# EAGLE library part ZXGD3002E6TA (library ICs)
DIODES INC. ZXGD3002E6TA DRIVER, GATE, BIPOLAR, 9A (PEAK)
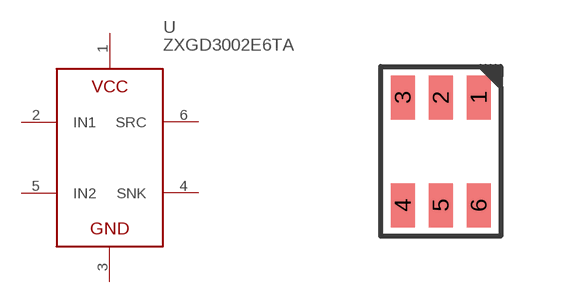
[diagram p68: symbol with the pads of SOT23-6; footprint SOT23-6]

Designator prefix U

## ZXGD3002E6TA (FARNELL: 1549139; PRICE_PER: 0.919; VALUE: ZXGD3002E6TA)  [SOT23-6]
1  VCC
2  IN1
3  GND
4  SNK
5  IN2
6  SRC

## Footprint SOT23-6 (pad centres in mm)
smd 0.6 x 1.1: 1 0.95,1.35; 2 0,1.35; 3 -0.95,1.35; 4 -0.95,-1.35; 5 0,-1.35; 6 0.95,-1.35